# EAGLE library part 0955036894 (library 0955036894)
Molex RJ45 Jack 8p8c
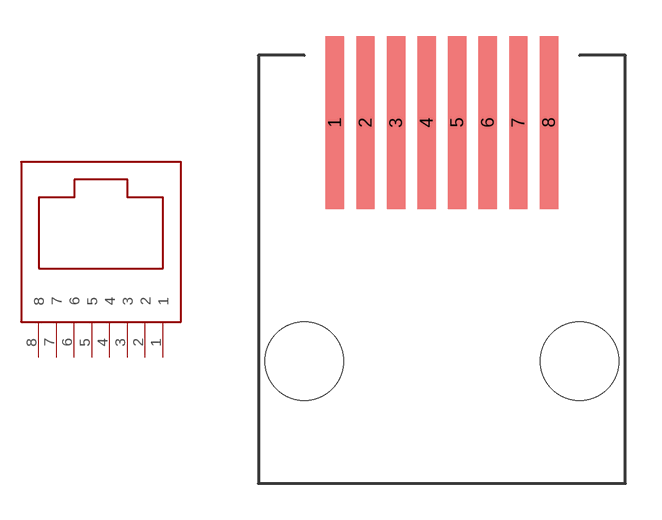
[diagram p0: symbol with the pads of 0955036894; footprint 0955036894]

Designator prefix -

## 0955036894  [0955036894]
1  1
2  2
3  3
4  4
5  5
6  6
7  7
8  8

## Footprint 0955036894 (pad centres in mm)
Surface Mount - 0.05" pitch - 8 Connector
smd 0.762 x 7.188: 1 1.27,9.906; 2 2.54,9.906; 3 3.81,9.906; 4 5.08,9.906; 5 6.35,9.906; 6 7.62,9.906; 7 8.89,9.906; 8 10.16,9.906
hole 3.251 at 0,0
hole 3.251 at 11.43,0